# EAGLE library part IMS-T801 (library Transputers)
T801 transputer INMOS 32-bit transputer with four communication links. Nonmultiplexed data - and address bus. Source: The Transputer Databook 1992. INMOS/SGS-Thomson Arto Kyyhkynen, artoky@dlc.fi
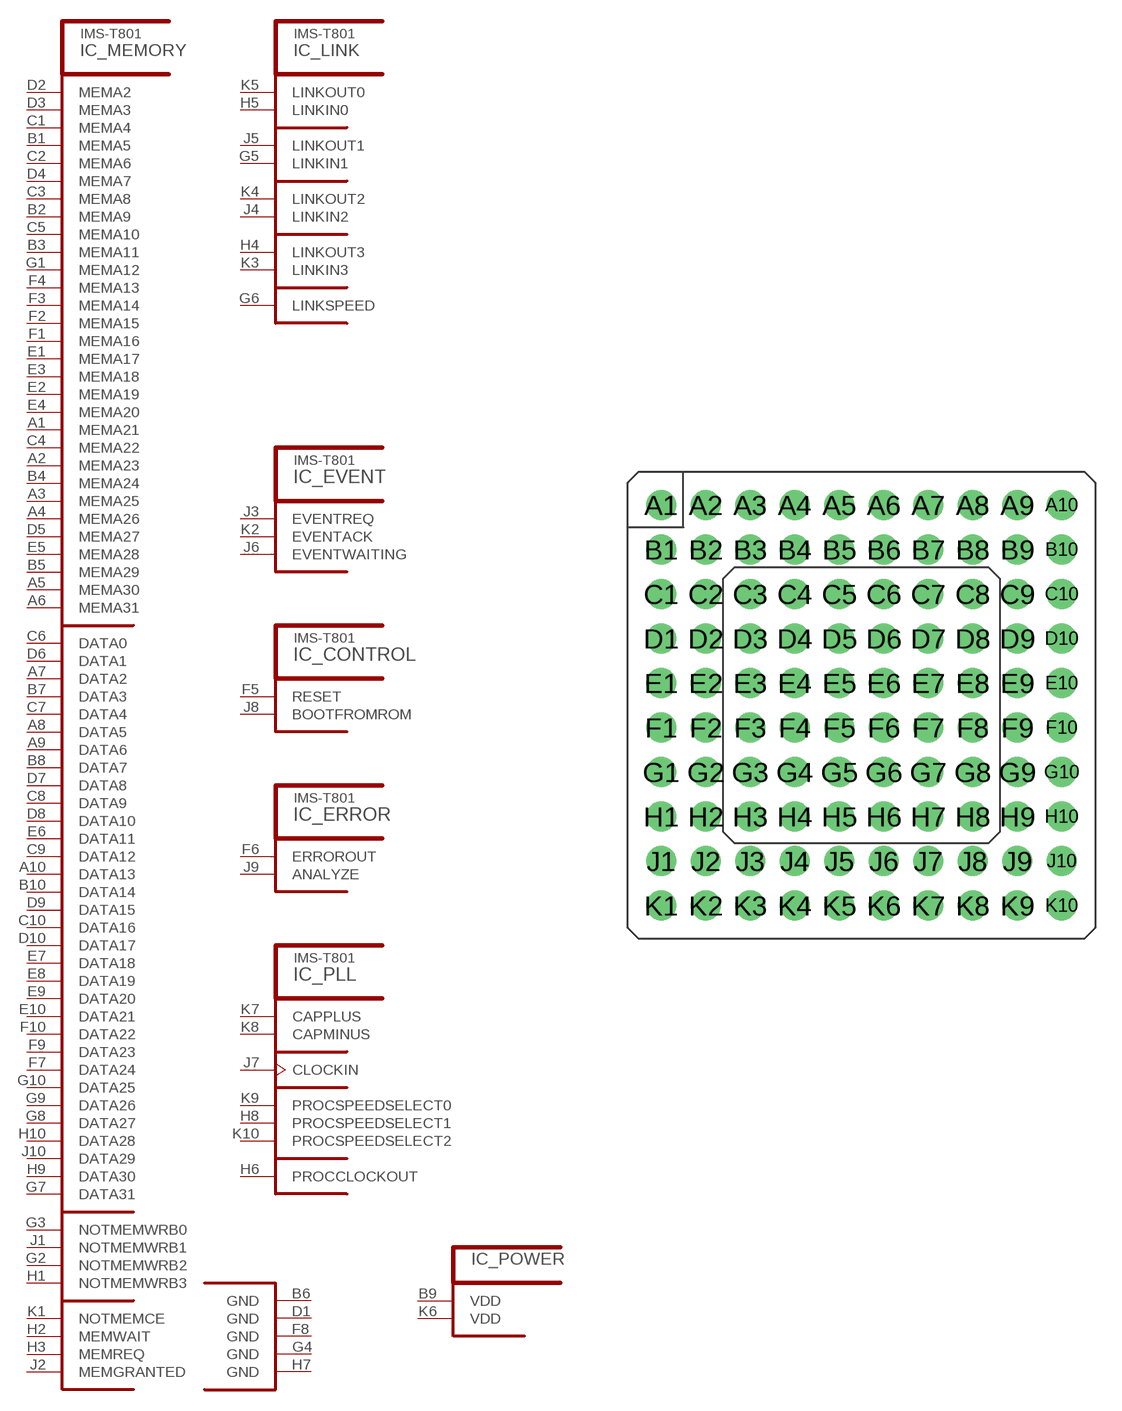
[diagram p23: symbol with the pads of PGA100; footprint PGA100]

Designator prefix IC; gates _PLL=T8PLL _EVENT=T8EVENT _ERROR=T801ERROR _CONTROL=T801CONTROL _MEMORY=T801MEM _LINK=T801LINK _POWER=T801SUP

## IMS-T801S20G, IMS-T801S25G  [PGA100]
A1  _MEMORY:MEMA21  out
A2  _MEMORY:MEMA23  out
A3  _MEMORY:MEMA25  out
A4  _MEMORY:MEMA26  out
A5  _MEMORY:MEMA30  out
A6  _MEMORY:MEMA31  out
A7  _MEMORY:DATA2
A8  _MEMORY:DATA5
A9  _MEMORY:DATA6
A10  _MEMORY:DATA13
B1  _MEMORY:MEMA5  out
B2  _MEMORY:MEMA9  out
B3  _MEMORY:MEMA11  out
B4  _MEMORY:MEMA24  out
B5  _MEMORY:MEMA29  out
B6  _POWER:GND  pwr
B7  _MEMORY:DATA3
B8  _MEMORY:DATA7
B9  _POWER:VDD  pwr
B10  _MEMORY:DATA14
C1  _MEMORY:MEMA4  out
C2  _MEMORY:MEMA6  out
C3  _MEMORY:MEMA8  out
C4  _MEMORY:MEMA22  out
C5  _MEMORY:MEMA10  out
C6  _MEMORY:DATA0
C7  _MEMORY:DATA4
C8  _MEMORY:DATA9
C9  _MEMORY:DATA12
C10  _MEMORY:DATA16
D1  _POWER:GND  pwr
D2  _MEMORY:MEMA2  out
D3  _MEMORY:MEMA3  out
D4  _MEMORY:MEMA7  out
D5  _MEMORY:MEMA27  out
D6  _MEMORY:DATA1
D7  _MEMORY:DATA8
D8  _MEMORY:DATA10
D9  _MEMORY:DATA15
D10  _MEMORY:DATA17
E1  _MEMORY:MEMA17  out
E2  _MEMORY:MEMA19  out
E3  _MEMORY:MEMA18  out
E4  _MEMORY:MEMA20  out
E5  _MEMORY:MEMA28  out
E6  _MEMORY:DATA11
E7  _MEMORY:DATA18
E8  _MEMORY:DATA19
E9  _MEMORY:DATA20
E10  _MEMORY:DATA21
F1  _MEMORY:MEMA16  out
F2  _MEMORY:MEMA15  out
F3  _MEMORY:MEMA14  out
F4  _MEMORY:MEMA13  out
F5  _CONTROL:RESET  in
F6  _ERROR:ERROROUT  out
F7  _MEMORY:DATA24
F8  _POWER:GND  pwr
F9  _MEMORY:DATA23
F10  _MEMORY:DATA22
G1  _MEMORY:MEMA12  out
G2  _MEMORY:NOTMEMWRB2  out
G3  _MEMORY:NOTMEMWRB0  out
G4  _POWER:GND  pwr
G5  _LINK:LINKIN1  in
G6  _LINK:LINKSPEED  in
G7  _MEMORY:DATA31
G8  _MEMORY:DATA27
G9  _MEMORY:DATA26
G10  _MEMORY:DATA25
H1  _MEMORY:NOTMEMWRB3  out
H2  _MEMORY:MEMWAIT  in
H3  _MEMORY:MEMREQ  in
H4  _LINK:LINKOUT3  out
H5  _LINK:LINKIN0  in
H6  _PLL:PROCCLOCKOUT  out
H7  _POWER:GND  pwr
H8  _PLL:PROCSPEEDSELECT1  in
H9  _MEMORY:DATA30
H10  _MEMORY:DATA28
J1  _MEMORY:NOTMEMWRB1  out
J2  _MEMORY:MEMGRANTED  out
J3  _EVENT:EVENTREQ  in
J4  _LINK:LINKIN2  in
J5  _LINK:LINKOUT1  out
J6  _EVENT:EVENTWAITING  out
J7  _PLL:CLOCKIN  in
J8  _CONTROL:BOOTFROMROM  in
J9  _ERROR:ANALYZE  in
J10  _MEMORY:DATA29
K1  _MEMORY:NOTMEMCE  out
K2  _EVENT:EVENTACK  out
K3  _LINK:LINKIN3  in
K4  _LINK:LINKOUT2  out
K5  _LINK:LINKOUT0  out
K6  _POWER:VDD  pwr
K7  _PLL:CAPPLUS  pas
K8  _PLL:CAPMINUS  pas
K9  _PLL:PROCSPEEDSELECT0  in
K10  _PLL:PROCSPEEDSELECT2  in

## Footprint PGA100 (pad centres in mm)
Ceramic Pin Grid Array
drill 1.143 pad 1.676 round: A1 -11.43,11.43; A2 -8.89,11.43; A3 -6.35,11.43; A4 -3.81,11.43; A5 -1.27,11.43; A6 1.27,11.43; A7 3.81,11.43; A8 6.35,11.43; A9 8.89,11.43; A10 11.43,11.43; B1 -11.43,8.89; B2 -8.89,8.89; B3 -6.35,8.89; B4 -3.81,8.89; B5 -1.27,8.89; B6 1.27,8.89; B7 3.81,8.89; B8 6.35,8.89; B9 8.89,8.89; B10 11.43,8.89; C1 -11.43,6.35; C2 -8.89,6.35; C3 -6.35,6.35; C4 -3.81,6.35; C5 -1.27,6.35; C6 1.27,6.35; C7 3.81,6.35; C8 6.35,6.35; C9 8.89,6.35; C10 11.43,6.35; D1 -11.43,3.81; D2 -8.89,3.81; D3 -6.35,3.81; D4 -3.81,3.81; D5 -1.27,3.81; D6 1.27,3.81; D7 3.81,3.81; D8 6.35,3.81; D9 8.89,3.81; D10 11.43,3.81; E1 -11.43,1.27; E2 -8.89,1.27; E3 -6.35,1.27; E4 -3.81,1.27; E5 -1.27,1.27; E6 1.27,1.27; E7 3.81,1.27; E8 6.35,1.27; E9 8.89,1.27; E10 11.43,1.27; F1 -11.43,-1.27; F2 -8.89,-1.27; F3 -6.35,-1.27; F4 -3.81,-1.27; F5 -1.27,-1.27; F6 1.27,-1.27; F7 3.81,-1.27; F8 6.35,-1.27; F9 8.89,-1.27; F10 11.43,-1.27; G1 -11.43,-3.81; G2 -8.89,-3.81; G3 -6.35,-3.81; G4 -3.81,-3.81; G5 -1.27,-3.81; G6 1.27,-3.81; G7 3.81,-3.81; G8 6.35,-3.81; G9 8.89,-3.81; G10 11.43,-3.81; H1 -11.43,-6.35; H2 -8.89,-6.35; H3 -6.35,-6.35; H4 -3.81,-6.35; H5 -1.27,-6.35; H6 1.27,-6.35; H7 3.81,-6.35; H8 6.35,-6.35; H9 8.89,-6.35; H10 11.43,-6.35; J1 -11.43,-8.89; J2 -8.89,-8.89; J3 -6.35,-8.89; J4 -3.81,-8.89; J5 -1.27,-8.89; J6 1.27,-8.89; J7 3.81,-8.89; J8 6.35,-8.89; J9 8.89,-8.89; J10 11.43,-8.89; K1 -11.43,-11.43; K2 -8.89,-11.43; K3 -6.35,-11.43; K4 -3.81,-11.43; K5 -1.27,-11.43; K6 1.27,-11.43; K7 3.81,-11.43; K8 6.35,-11.43; K9 8.89,-11.43; K10 11.43,-11.43